# Altium footprint library C_MLCC.PcbLib: 14 footprints
Each footprint in its own frame and in the unit in brackets; x right, y up, seen from the top. Pads: shape width x height; smd on the part's side, far side on the other; paste and mask are expansions set on the pad; w line width, h text height; cw(c..) or ccw(c..) is an arc to the next point about the centre after c.
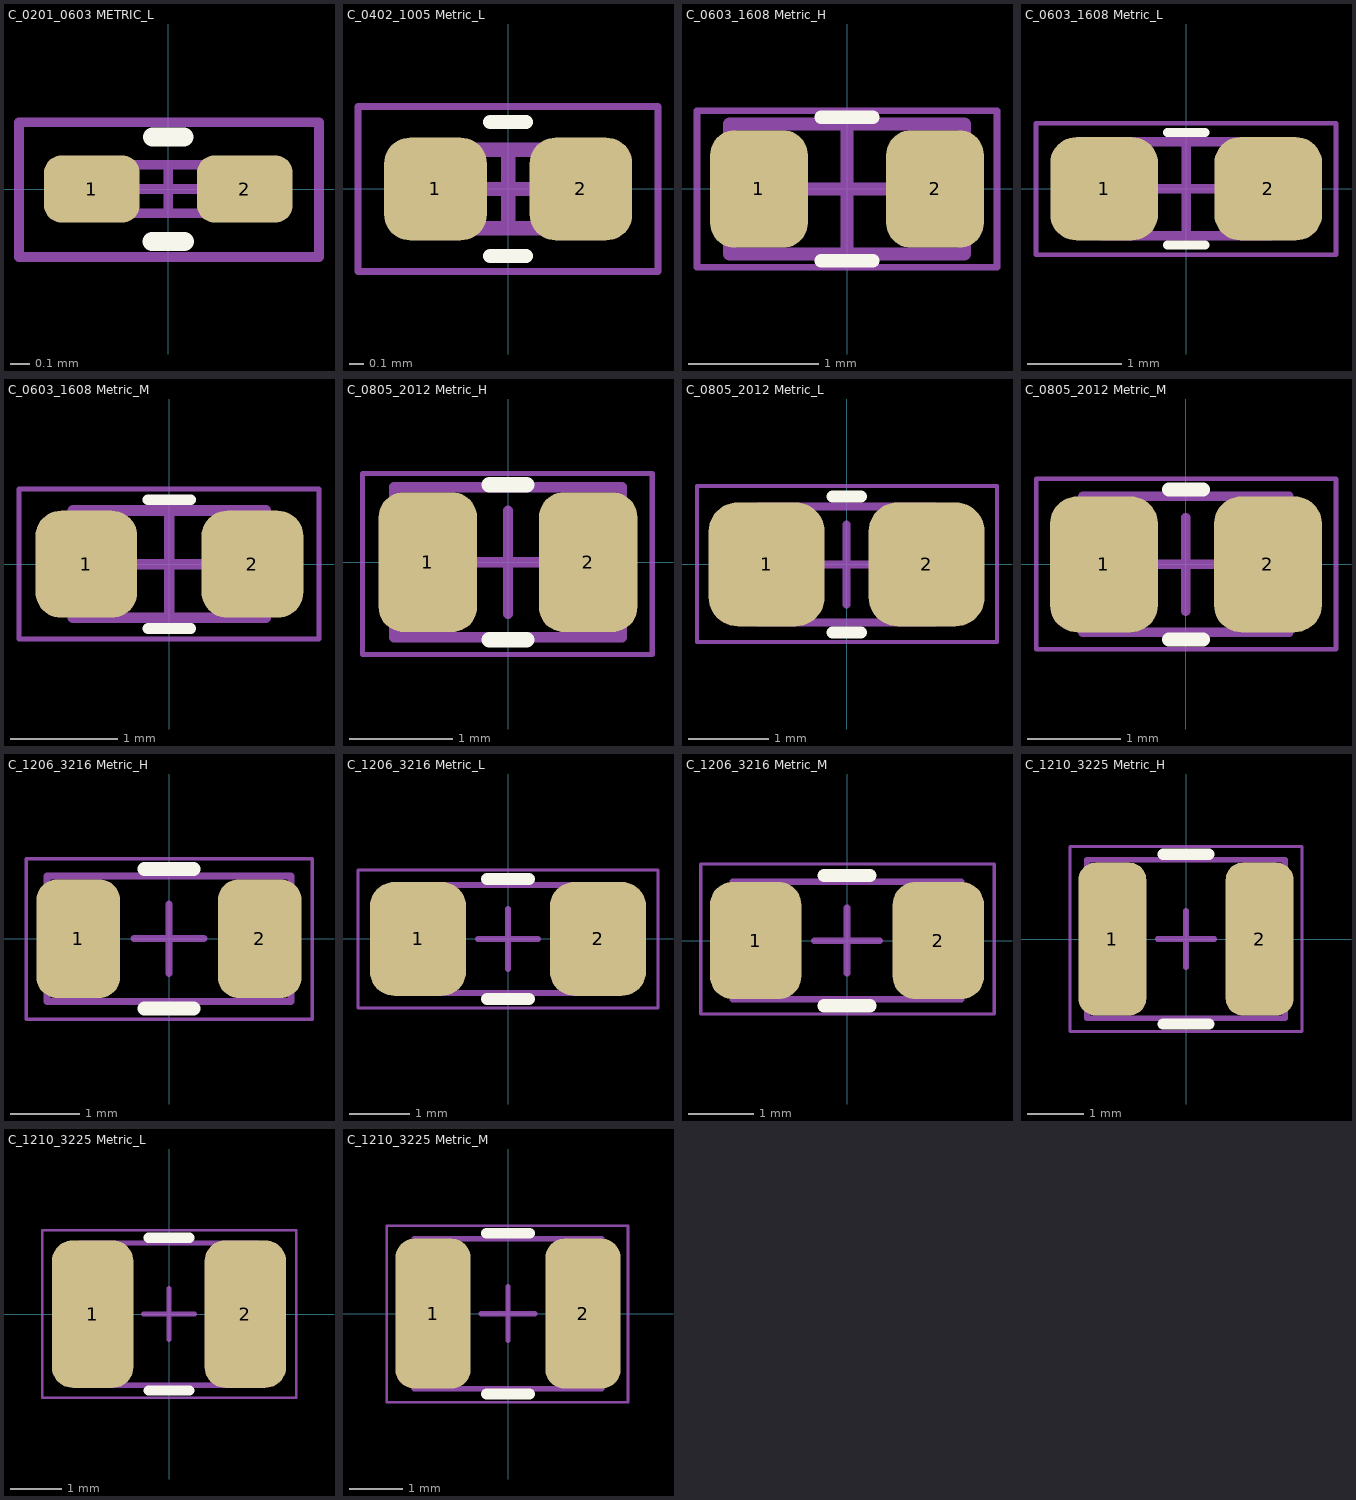
[diagram p0: the footprints below, top view; thin cyan lines are the x and y axes]

## C_0201_0603 METRIC_L [mm] "Capacitor_0201_Low Density"
pads (2):
  rrect50% 0.5x0.35 smd: 1(-0.4,0) 2(0.4,0)
Top Overlay:
  lines w0.1: -0.084,-0.274 0.084,-0.274 ; -0.082,0.272 0.081,0.272
Mechanical 13:
  lines w0.05: -0.25,-0.127 -0.25,0.127 0.25,0.127 0.25,-0.127 -0.25,-0.127
Mechanical 15:
  lines w0.05: -0.25,0 0.25,0 ; 0,-0.127 0,0.127 ; -0.781,-0.356 0.788,-0.356 0.788,0.35 -0.781,0.35 -0.781,-0.356
3D body: height 0.3, standoff 0.01, extent -0.1,-0.138 0.1,0.138
3D body: height 0.3, standoff 0.01, extent 0.1,-0.138 0.25,0.138
3D body: height 0.3, standoff 0.01, extent -0.25,-0.138 -0.1,0.138

## C_0402_1005 Metric_L [mm] "Chip Capacitor, 2-Leads, Body 1.00x0.50mm, IPC Low Density"
height 0.55
pads (2):
  rrect50% 0.72x0.72 smd: 1(-0.51,0)
  rrect50% 0.72x0.72 smd mask+0.054: 2(0.51,0)
Top Overlay:
  lines w0.1: -0.125,-0.47 0.125,-0.47 ; -0.125,0.47 0.125,0.47
Mechanical 13:
  lines w0.1: -0.525,-0.275 -0.525,0.275 0.525,0.275 0.525,-0.275 -0.525,-0.275
Mechanical 15:
  lines w0.05: -1.053,-0.579 1.051,-0.579 1.051,0.578 -1.053,0.578 -1.053,-0.579
  lines w0.1: -0.275,0 0.275,0 ; 0,-0.275 0,0.275
3D body "C_0402_L.step": height 0.55, standoff 0, extent -0.525,-0.275 0.525,0.275

## C_0603_1608 Metric_H [mm] "Chip Capacitor, 2-Leads, Body 1.60x0.80mm, IPC High Density"
height 0.8
pads (2):
  rrect50% 0.75x0.9 smd: 1(-0.675,0) 2(0.675,0)
Top Overlay:
  lines w0.1: -0.2,-0.55 0.2,-0.55 ; -0.2,0.55 0.2,0.55
Mechanical 13:
  lines w0.1: -0.9,-0.5 -0.9,0.5 0.9,0.5 0.9,-0.5 -0.9,-0.5
Mechanical 15:
  lines w0.05: -1.15,-0.6 -1.15,0.6 1.15,0.6 1.15,-0.6 -1.15,-0.6
  lines w0.1: -0.5,0 0.5,0 ; 0,-0.5 0,0.5
3D body "C_0603_H.step": height 0.8, standoff 0, extent -0.9,-0.5 0.9,0.5

## C_0603_1608 Metric_L [mm] "Chip Capacitor, 2-Leads, Body 1.60x0.80mm, IPC Low Density"
height 0.8
pads (2):
  rrect50% 1.15x1.1 smd: 1(-0.875,0) 2(0.875,0)
Top Overlay:
  lines w0.1: -0.2,-0.6 0.2,-0.6 ; -0.2,0.6 0.2,0.6
Mechanical 13:
  lines w0.1: -0.9,-0.5 -0.9,0.5 0.9,0.5 0.9,-0.5 -0.9,-0.5
Mechanical 15:
  lines w0.05: -1.602,-0.702 1.598,-0.702 1.598,0.698 -1.602,0.698 -1.602,-0.702
  lines w0.1: -0.5,0 0.5,0 ; 0,-0.5 0,0.5
3D body "C_0603_H.step": height 0.8, standoff 0, extent -0.925,-0.5 0.875,0.5

## C_0603_1608 Metric_M [mm] "Chip Capacitor, 2-Leads, Body 1.60x0.80mm, IPC Medium Density"
height 0.8
pads (2):
  rrect50% 0.95x1 smd: 1(-0.775,0) 2(0.775,0)
Top Overlay:
  lines w0.1: -0.2,-0.6 0.2,-0.6 ; -0.2,0.6 0.2,0.6
Mechanical 13:
  lines w0.1: -0.9,-0.5 0.9,-0.5 0.9,0.5 -0.9,0.5 -0.9,-0.5
Mechanical 15:
  lines w0.05: -1.404,-0.699 1.396,-0.699 1.396,0.701 -1.404,0.701 -1.404,-0.699
  lines w0.1: -0.5,0 0.5,0 ; 0,-0.5 0,0.5
3D body "C_0603_M.step": height 0.8, standoff 0, extent -0.9,-0.5 0.9,0.5

## C_0805_2012 Metric_H [mm] "Chip Capacitor, 2-Leads, Body 2.00x1.25mm, IPC High Density"
height 1.45
pads (2):
  rrect50% 0.95x1.35 smd: 1(-0.775,0) 2(0.775,0)
Top Overlay:
  lines w0.15: -0.18,-0.75 0.18,-0.75 ; -0.18,0.75 0.18,0.75
Mechanical 13:
  lines w0.1: -1.1,-0.725 -1.1,0.725 1.1,0.725 1.1,-0.725 -1.1,-0.725
Mechanical 15:
  lines w0.05: -1.405,-0.893 1.395,-0.893 1.395,0.857 -1.405,0.857 -1.405,-0.893
  lines w0.1: -0.5,0 0.5,0 ; 0,-0.5 0,0.5
3D body "Chip2PinSM127P600-8N.step": height 1.45, standoff 0, extent -1.1,-0.725 1.1,0.725

## C_0805_2012 Metric_L [mm] "Chip Capacitor, 2-Leads, Body 2.00x1.25mm, IPC Low Density"
height 1.45
pads (2):
  rrect50% 1.45x1.55 smd: 1(-1,0) 2(1,0)
Top Overlay:
  lines w0.15: -0.18,-0.85 0.18,-0.85 ; -0.18,0.85 0.18,0.85
Mechanical 13:
  lines w0.1: -1.1,-0.725 -1.1,0.725 1.1,0.725 1.1,-0.725 -1.1,-0.725
Mechanical 15:
  lines w0.05: -1.871,-0.971 1.879,-0.971 1.879,0.979 -1.871,0.979 -1.871,-0.971
  lines w0.1: -0.5,0 0.5,0 ; 0,-0.5 0,0.5
3D body "C_0805_2012Metric_L.step": height 1.45, standoff 0, extent -1.1,-0.725 1.1,0.725

## C_0805_2012 Metric_M [mm] "Chip Capacitor, 2-Leads, Body 2.00x1.25mm, IPC Medium Density"
height 1.45
pads (2):
  rrect50% 1.15x1.45 smd: 1(-0.875,0) 2(0.875,0)
Top Overlay:
  lines w0.15: -0.18,-0.8 0.18,-0.8 ; -0.18,0.8 0.18,0.8
Mechanical 13:
  lines w0.1: -1.1,-0.725 1.1,-0.725 1.1,0.725 -1.1,0.725 -1.1,-0.725
Mechanical 15:
  lines w0.05: -1.599,-0.906 1.602,-0.906 1.602,0.914 -1.599,0.914 -1.599,-0.906
  lines w0.1: -0.5,0 0.5,0 ; 0,-0.5 0,0.5
3D body "C_0805_2012 Metric_M.step": height 1.45, standoff 0, extent -1.1,-0.725 1.1,0.725

## C_1206_3216 Metric_H [mm] "Chip Capacitor, 2-Leads, Body 3.20x1.60mm, IPC High Density"
height 1.6
pads (2):
  rrect50% 1.2x1.7 smd: 1(-1.3,0) 2(1.3,0)
Top Overlay:
  lines w0.2: -0.35,-1 0.35,-1 ; -0.35,1 0.35,1
Mechanical 13:
  lines w0.1: -1.75,-0.9 1.75,-0.9 1.75,0.9 -1.75,0.9 -1.75,-0.9
Mechanical 15:
  lines w0.05: -2.049,-1.154 2.051,-1.154 2.051,1.146 -2.049,1.146 -2.049,-1.154
  lines w0.1: -0.5,0 0.5,0 ; 0,-0.5 0,0.5
3D body "C_1206_3216 Metric_H.step": height 1.6, standoff 0, extent -1.75,-0.9 1.75,0.9

## C_1206_3216 Metric_L [mm] "Chip Capacitor, 2-Leads, Body 3.20x1.60mm, IPC Low Density"
height 1.6
pads (2):
  rrect50% 1.6x1.9 smd: 1(-1.5,0) 2(1.5,0)
Top Overlay:
  lines w0.2: -0.35,-1 0.35,-1 ; -0.35,1 0.35,1
Mechanical 13:
  lines w0.1: -1.75,-0.9 -1.75,0.9 1.75,0.9 1.75,-0.9 -1.75,-0.9
Mechanical 15:
  lines w0.05: -2.5,-1.151 2.5,-1.151 2.5,1.149 -2.5,1.149 -2.5,-1.151
  lines w0.1: -0.5,0 0.5,0 ; 0,-0.5 0,0.5
3D body "C_1206_3216 Metric_L.step": height 1.6, standoff 0, extent -1.75,-0.9 1.75,0.9

## C_1206_3216 Metric_M [mm] "Chip Capacitor, 2-Leads, Body 3.20x1.60mm, IPC Medium Density"
height 1.6
pads (2):
  rrect50% 1.4x1.8 smd: 1(-1.4,0) 2(1.4,0)
Top Overlay:
  lines w0.2: -0.35,-1 0.35,-1 ; -0.35,1 0.35,1
Mechanical 13:
  lines w0.1: -1.75,-0.9 1.75,-0.9 1.75,0.9 -1.75,0.9 -1.75,-0.9
Mechanical 15:
  lines w0.05: -2.242,-1.126 2.258,-1.126 2.258,1.174 -2.242,1.174 -2.242,-1.126
  lines w0.1: -0.5,0 0.5,0 ; 0,-0.5 0,0.5
3D body "C_1206_3216 Metric_M.step": height 1.6, standoff 0, extent -1.75,-0.9 1.75,0.9

## C_1210_3225 Metric_H [mm] "Chip Capacitor, 2-Leads, Body 3.20x2.50mm, IPC High Density"
height 2
pads (2):
  rrect50% 1.2x2.7 smd: 1(-1.3,0) 2(1.3,0)
Top Overlay:
  lines w0.2: -0.4,-1.5 0.4,-1.5 ; -0.4,1.5 0.4,1.5
Mechanical 13:
  lines w0.1: -1.75,-1.4 -1.75,1.4 1.75,1.4 1.75,-1.4 -1.75,-1.4
Mechanical 15:
  lines w0.05: -2.051,-1.634 2.049,-1.634 2.049,1.636 -2.051,1.636 -2.051,-1.634
  lines w0.1: -0.5,0 0.5,0 ; 0,-0.5 0,0.5
3D body "CAPC3225X20L.step": height 2, standoff 0, extent -1.75,-1.4 1.75,1.4

## C_1210_3225 Metric_L [mm] "Chip Capacitor, 2-Leads, Body 3.20x2.50mm, IPC Low Density"
pads (2):
  rrect50% 1.6x2.9 smd: 1(-1.5,0) 2(1.5,0)
Top Overlay:
  lines w0.2: -0.4,-1.5 0.4,-1.5 ; -0.4,1.5 0.4,1.5
Mechanical 13:
  lines w0.1: -1.75,-1.4 -1.75,1.4 1.75,1.4 1.75,-1.4 -1.75,-1.4
Mechanical 15:
  lines w0.05: -2.496,-1.648 2.504,-1.648 2.504,1.652 -2.496,1.652 -2.496,-1.648
  lines w0.1: -0.5,0 0.5,0 ; 0,-0.5 0,0.5
3D body "C_1210_3225 Metric_L.step": height 2, standoff 0, extent -1.75,-1.4 1.75,1.4

## C_1210_3225 Metric_M [mm] "Chip Capacitor, 2-Leads, Body 3.20x2.50mm, IPC Medium Density"
pads (2):
  rrect50% 1.4x2.8 smd: 1(-1.4,0) 2(1.4,0)
Top Overlay:
  lines w0.2: -0.4,-1.5 0.4,-1.5 ; -0.4,1.5 0.4,1.5
Mechanical 13:
  lines w0.1: -1.75,-1.4 -1.75,1.4 1.75,1.4 1.75,-1.4 -1.75,-1.4
Mechanical 15:
  lines w0.05: -2.261,-1.657 2.239,-1.657 2.239,1.643 -2.261,1.643 -2.261,-1.657
  lines w0.1: -0.5,0 0.5,0 ; 0,-0.5 0,0.5
3D body "C_1210_3225 Metric_M.step": height 2, standoff 0, extent -1.75,-1.4 1.75,1.4